# EAGLE library part TER-04S (library LITTLEBITS140915)
SUNGMUN ELECTRONICS 4-position rotary DIP switch Model No: TER-04S
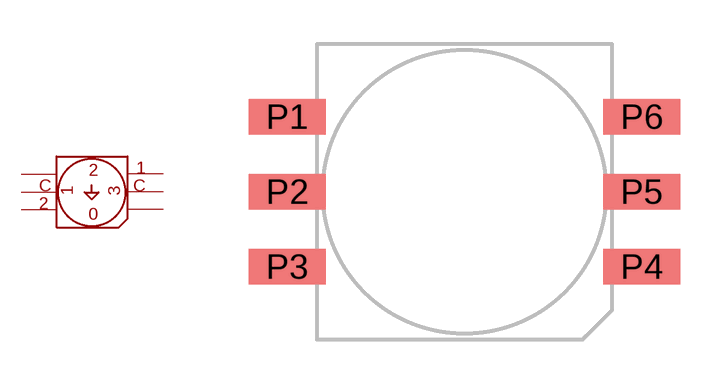
[diagram p39: symbol with the pads of TER-04S; footprint TER-04S]

Designator prefix -

## TER-04S (MFG: Sung Mun Electronics Co.; MPN: TER-04S)  [TER-04S]
P1  P1  nc
P2  P2  in
P3  P3  out
P4  P4  nc
P5  P5  in
P6  P6  out

## Footprint TER-04S (pad centres in mm)
smd 2.6 x 1.2: P1 -1,7.54; P2 -1,5; P3 -1,2.46; P4 11,2.46; P5 11,5; P6 11,7.54